# Altium schematic symbol library ESDA7P60-1U1M.SchLib: 1 symbol
Pins are listed as number, name and electrical type; pins without a type are passive.

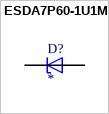
[diagram p0: symbol ESDA7P60-1U1M]

## ESDA7P60-1U1M
designator D?
MF: {'manufacturer': u'STMicroelectronics'}; MP: ESDA7P60-1U1M; Package: None; Price: None; Value: *; Availability: Unavailable
footprint TVS_ESDA7P60-1U1M
pins: 1, 2